# EAGLE library part FT245RL (library FT245RL)
FT245RL, Universal Asynchronous Receiver & Transmitter 1Mbit/s, 28-Pin, SSOP Source: Datasheet <http://www.ftdichip.com/Support/Documents/DataSheets/ICs/DS_FT245R.pdf>
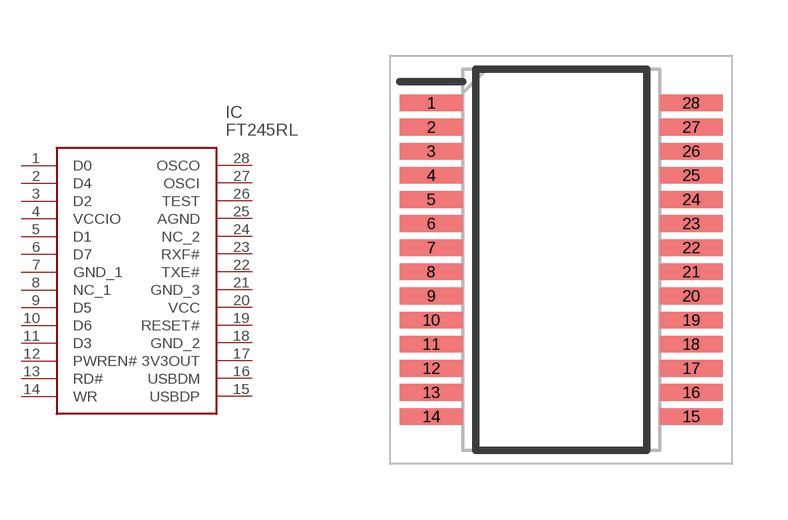
[diagram p0: symbol with the pads of SOP65P778X200-28N; footprint SOP65P778X200-28N]

Designator prefix IC

## FT245RL (Description: FT245RL, Universal Asynchronous Receiver & Transmitter 1Mbit/s, 28-Pin, SSOP; Height: 2mm; Manufacturer_Name: FTDI Chip; Manufacturer_Part_Number: FT245RL)  [SOP65P778X200-28N]
1  D0
2  D4
3  D2
4  VCCIO
5  D1
6  D7
7  GND_1
8  NC_1
9  D5
10  D6
11  D3
12  PWREN#
13  RD#
14  WR
15  USBDP
16  USBDM
17  3V3OUT
18  GND_2
19  RESET#
20  VCC
21  GND_3
22  TXE#
23  RXF#
24  NC_2
25  AGND
26  TEST
27  OSCI
28  OSCO

## Footprint SOP65P778X200-28N (pad centres in mm)
SSOP-28 1
smd 1.7 x 0.45: 1 -3.5,4.225; 2 -3.5,3.575; 3 -3.5,2.925; 4 -3.5,2.275; 5 -3.5,1.625; 6 -3.5,0.975; 7 -3.5,0.325; 8 -3.5,-0.325; 9 -3.5,-0.975; 10 -3.5,-1.625; 11 -3.5,-2.275; 12 -3.5,-2.925; 13 -3.5,-3.575; 14 -3.5,-4.225; 15 3.5,-4.225; 16 3.5,-3.575; 17 3.5,-2.925; 18 3.5,-2.275; 19 3.5,-1.625; 20 3.5,-0.975; 21 3.5,-0.325; 22 3.5,0.325; 23 3.5,0.975; 24 3.5,1.625; 25 3.5,2.275; 26 3.5,2.925; 27 3.5,3.575; 28 3.5,4.225